# EAGLE library part EZC40DRXH (library con-edge-finger)
Sullins - EZC40DRXH
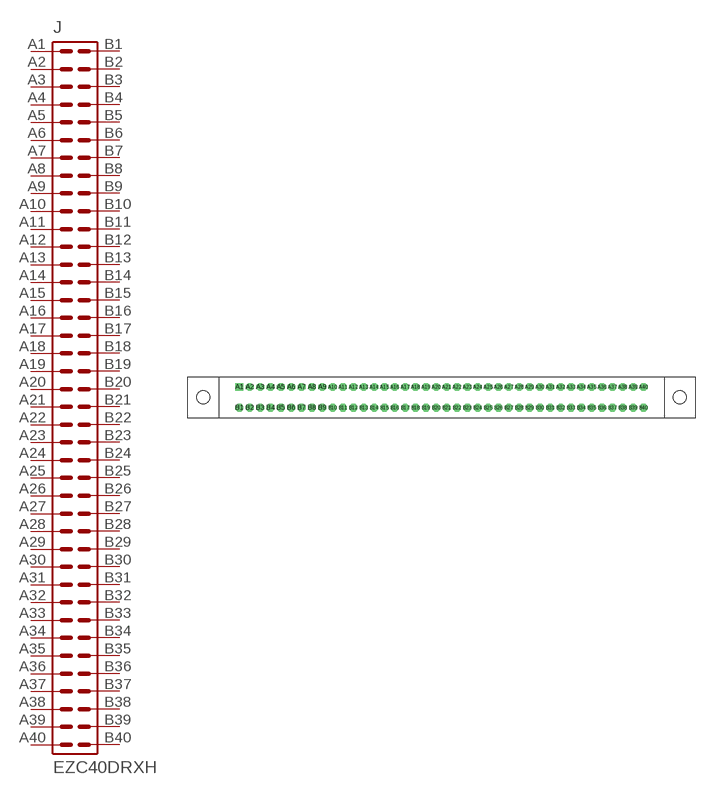
[diagram p1: symbol with the pads of EZC40DRXH; footprint EZC40DRXH]

Designator prefix J

## EZC40DRXH  [EZC40DRXH]
A1  A1  pas
A2  A2  pas
A3  A3  pas
A4  A4  pas
A5  A5  pas
A6  A6  pas
A7  A7  pas
A8  A8  pas
A9  A9  pas
A10  A10  pas
A11  A11  pas
A12  A12  pas
A13  A13  pas
A14  A14  pas
A15  A15  pas
A16  A16  pas
A17  A17  pas
A18  A18  pas
A19  A19  pas
A20  A20  pas
A21  A21  pas
A22  A22  pas
A23  A23  pas
A24  A24  pas
A25  A25  pas
A26  A26  pas
A27  A27  pas
A28  A28  pas
A29  A29  pas
A30  A30  pas
A31  A31  pas
A32  A32  pas
A33  A33  pas
A34  A34  pas
A35  A35  pas
A36  A36  pas
A37  A37  pas
A38  A38  pas
A39  A39  pas
A40  A40  pas
B1  B1  pas
B2  B2  pas
B3  B3  pas
B4  B4  pas
B5  B5  pas
B6  B6  pas
B7  B7  pas
B8  B8  pas
B9  B9  pas
B10  B10  pas
B11  B11  pas
B12  B12  pas
B13  B13  pas
B14  B14  pas
B15  B15  pas
B16  B16  pas
B17  B17  pas
B18  B18  pas
B19  B19  pas
B20  B20  pas
B21  B21  pas
B22  B22  pas
B23  B23  pas
B24  B24  pas
B25  B25  pas
B26  B26  pas
B27  B27  pas
B28  B28  pas
B29  B29  pas
B30  B30  pas
B31  B31  pas
B32  B32  pas
B33  B33  pas
B34  B34  pas
B35  B35  pas
B36  B36  pas
B37  B37  pas
B38  B38  pas
B39  B39  pas
B40  B40  pas

## Footprint EZC40DRXH (pad centres in mm)
Sullins Edge Connector EZC40DRXH
drill 1.092 pad 1.93 square: A1 -49.53,2.54
drill 1.092 pad 1.93 octagon: A2 -46.99,2.54; A3 -44.45,2.54; A4 -41.91,2.54; A5 -39.37,2.54; A6 -36.83,2.54; A7 -34.29,2.54; A8 -31.75,2.54; A9 -29.21,2.54; A10 -26.67,2.54; A11 -24.13,2.54; A12 -21.59,2.54; A13 -19.05,2.54; A14 -16.51,2.54; A15 -13.97,2.54; A16 -11.43,2.54; A17 -8.89,2.54; A18 -6.35,2.54; A19 -3.81,2.54; A20 -1.27,2.54; A21 1.27,2.54; A22 3.81,2.54; A23 6.35,2.54; A24 8.89,2.54; A25 11.43,2.54; A26 13.97,2.54; A27 16.51,2.54; A28 19.05,2.54; A29 21.59,2.54; A30 24.13,2.54; A31 26.67,2.54; A32 29.21,2.54; A33 31.75,2.54; A34 34.29,2.54; A35 36.83,2.54; A36 39.37,2.54; A37 41.91,2.54; A38 44.45,2.54; A39 46.99,2.54; A40 49.53,2.54; B1 -49.53,-2.54; B2 -46.99,-2.54; B3 -44.45,-2.54; B4 -41.91,-2.54; B5 -39.37,-2.54; B6 -36.83,-2.54; B7 -34.29,-2.54; B8 -31.75,-2.54; B9 -29.21,-2.54; B10 -26.67,-2.54; B11 -24.13,-2.54; B12 -21.59,-2.54; B13 -19.05,-2.54; B14 -16.51,-2.54; B15 -13.97,-2.54; B16 -11.43,-2.54; B17 -8.89,-2.54; B18 -6.35,-2.54; B19 -3.81,-2.54; B20 -1.27,-2.54; B21 1.27,-2.54; B22 3.81,-2.54; B23 6.35,-2.54; B24 8.89,-2.54; B25 11.43,-2.54; B26 13.97,-2.54; B27 16.51,-2.54; B28 19.05,-2.54; B29 21.59,-2.54; B30 24.13,-2.54; B31 26.67,-2.54; B32 29.21,-2.54; B33 31.75,-2.54; B34 34.29,-2.54; B35 36.83,-2.54; B36 39.37,-2.54; B37 41.91,-2.54; B38 44.45,-2.54; B39 46.99,-2.54; B40 49.53,-2.54
hole 3.226 at -58.42,0
hole 3.226 at 58.42,0